# Altium footprint library B5B-XH-A.PcbLib: 1 footprints
Each footprint in its own frame and in the unit in brackets; x right, y up, seen from the top. Pads: shape width x height; smd on the part's side, far side on the other; paste and mask are expansions set on the pad; w line width, h text height; cw(c..) or ccw(c..) is an arc to the next point about the centre after c.
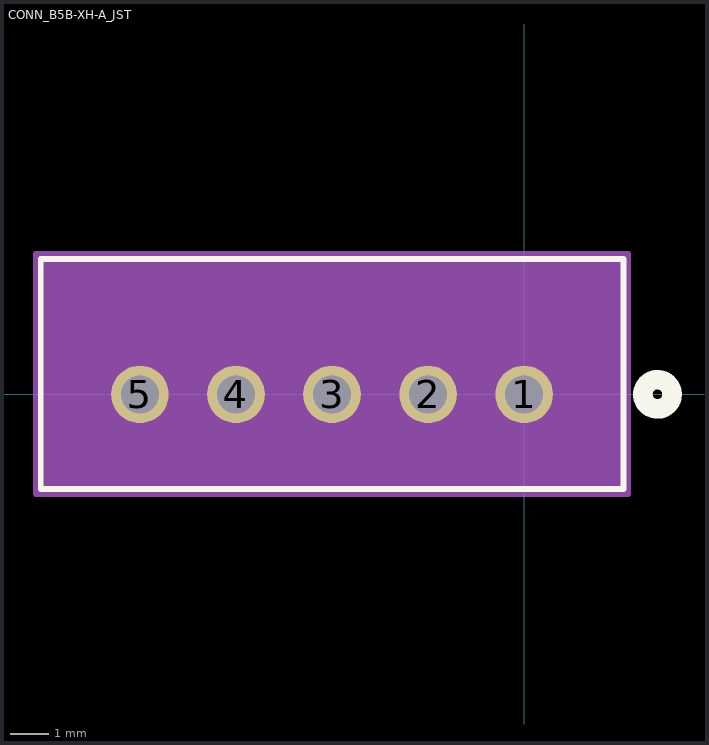
[diagram p0: the footprint, top view; thin cyan lines are the x and y axes]

## CONN_B5B-XH-A_JST [mil]
pads (5):
  round 59 hole 39 paste-29.5 mask+0: 1(0,0) 2(-98.43,0) 3(-196.85,0) 4(-295.28,0) 5(-393.7,0)
Top Overlay:
  circle w20: c136.65,0 r15
  lines w6: -495.35,-97.14 101.65,-97.14 101.65,138.86 -495.35,138.86 -495.35,-97.14
  text ".Designator" at -334.35,-25 h50
Bottom Overlay:
  circle w20: c136.65,0 r15
Mechanical 13:
  circle w20: c0,0 r15
  lines w1: -490.35,-92.14 96.65,-92.14 96.65,133.86 -490.35,133.86 -490.35,-92.14
  text ".Designator" at -334.35,-25 h50
Mechanical 15:
  region: 106.65,143.86 -500.35,143.86 -500.35,-102.14 106.65,-102.14
  lines w6: -500.35,-102.14 -500.35,143.86 106.65,143.86 106.65,-102.14 -500.35,-102.14